# Altium footprint library Inductor Footprints.PcbLib: 4 footprints
Each footprint in its own frame and in the unit in brackets; x right, y up, seen from the top. Pads: shape width x height; smd on the part's side, far side on the other; paste and mask are expansions set on the pad; w line width, h text height; cw(c..) or ccw(c..) is an arc to the next point about the centre after c.
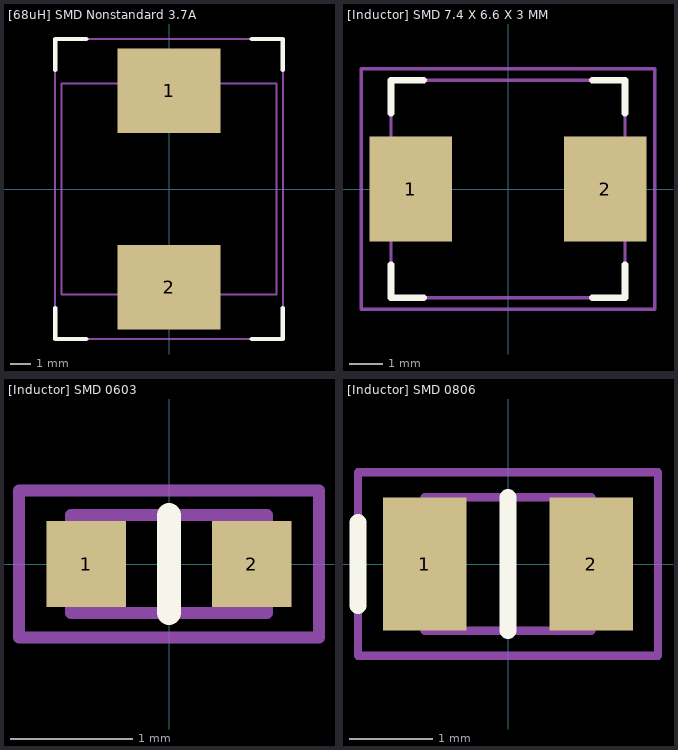
[diagram p0: the footprints below, top view; thin cyan lines are the x and y axes]

## [68uH] SMD Nonstandard 3.7A [mm] "VSHB1060T-680MC"
height 5.8
pads (2):
  rect 5x4.1 smd: 1(0,4.75) 2(0,-4.75)
Top Overlay:
  lines w0.2: -5.5,-5.75 -5.5,-7.25 -4,-7.25 ; -5.5,5.75 -5.5,7.25 -4,7.25 ; 4,-7.25 5.5,-7.25 5.5,-5.75 ; 4,7.25 5.5,7.25 5.5,5.75
Physical Outline:
  lines w0.1: -5.2,-5.1 -5.2,5.1 5.2,5.1 5.2,-5.1 -5.2,-5.1
Part Border:
  lines w0.1: -5.5,-7.25 5.5,-7.25 5.5,7.25 -5.5,7.25 -5.5,-7.25
3D body "[68uH] SMD Nonstandard 3.7A.stp": height 5.8, standoff -0.06, extent -5.075,-5.475 5.075,5.475

## [Inductor] SMD 7.4 X 6.6 X 3 MM [mm]
pads (2):
  rect 2.5x3.2 smd: 1(-2.95,0) 2(2.95,0)
Top Overlay:
  lines w0.2: -3.55,-2.3 -3.55,-3.3 -2.55,-3.3 ; -3.55,2.3 -3.55,3.3 -2.55,3.3 ; 2.55,-3.3 3.55,-3.3 3.55,-2.3 ; 2.55,3.3 3.55,3.3 3.55,2.3
Physical Outline:
  lines w0.1: -3.55,-3.3 -3.55,3.3 3.55,3.3 3.55,-3.3 -3.55,-3.3
Part Border:
  lines w0.1: -4.45,-3.65 -4.45,3.65 4.45,3.65 4.45,-3.65 -4.45,-3.65
3D body "ECS-MPIL0630-2R2MC.stp": height 3, standoff 0, extent -3.55,-3.3 3.55,3.3

## [Inductor] SMD 0603 [mm]
pads (2):
  rect 0.65x0.7 smd: 1(-0.675,0) 2(0.675,0)
Top Overlay:
  lines w0.2: 0,-0.4 0,0.4
Physical Outline:
  lines w0.1: -0.8,-0.4 0.8,-0.4 0.8,0.4 -0.8,0.4 -0.8,-0.4
Part Border:
  lines w0.1: -1.225,-0.6 1.225,-0.6 1.225,0.6 -1.225,0.6 -1.225,-0.6
3D body "SMD Inductor [0603].STEP": height 0.95, standoff 0, extent -0.8,-0.4 0.8,0.4

## [Inductor] SMD 0806 [mm]
pads (2):
  rect 1x1.6 smd: 1(-1,0) 2(1,0)
Top Overlay:
  lines w0.2: -1.8,-0.5 -1.8,0.5 ; 0,-0.8 0,0.8
Physical Outline:
  lines w0.1: -1,-0.8 -1,0.8 1,0.8 1,-0.8 -1,-0.8
Part Border:
  lines w0.1: -1.8,-1.1 -1.8,1.1 1.8,1.1 1.8,-1.1 -1.8,-1.1
3D body "AOTA-B201610S3R3-101-T.stp": height 1, standoff 0, extent -1,-0.8 1,0.8